# Altium footprint library MyPcbLib.PcbLib: 43 footprints (part 1 of 3)
Each footprint in its own frame and in the unit in brackets; x right, y up, seen from the top. Pads: shape width x height; smd on the part's side, far side on the other; paste and mask are expansions set on the pad; w line width, h text height; cw(c..) or ccw(c..) is an arc to the next point about the centre after c.
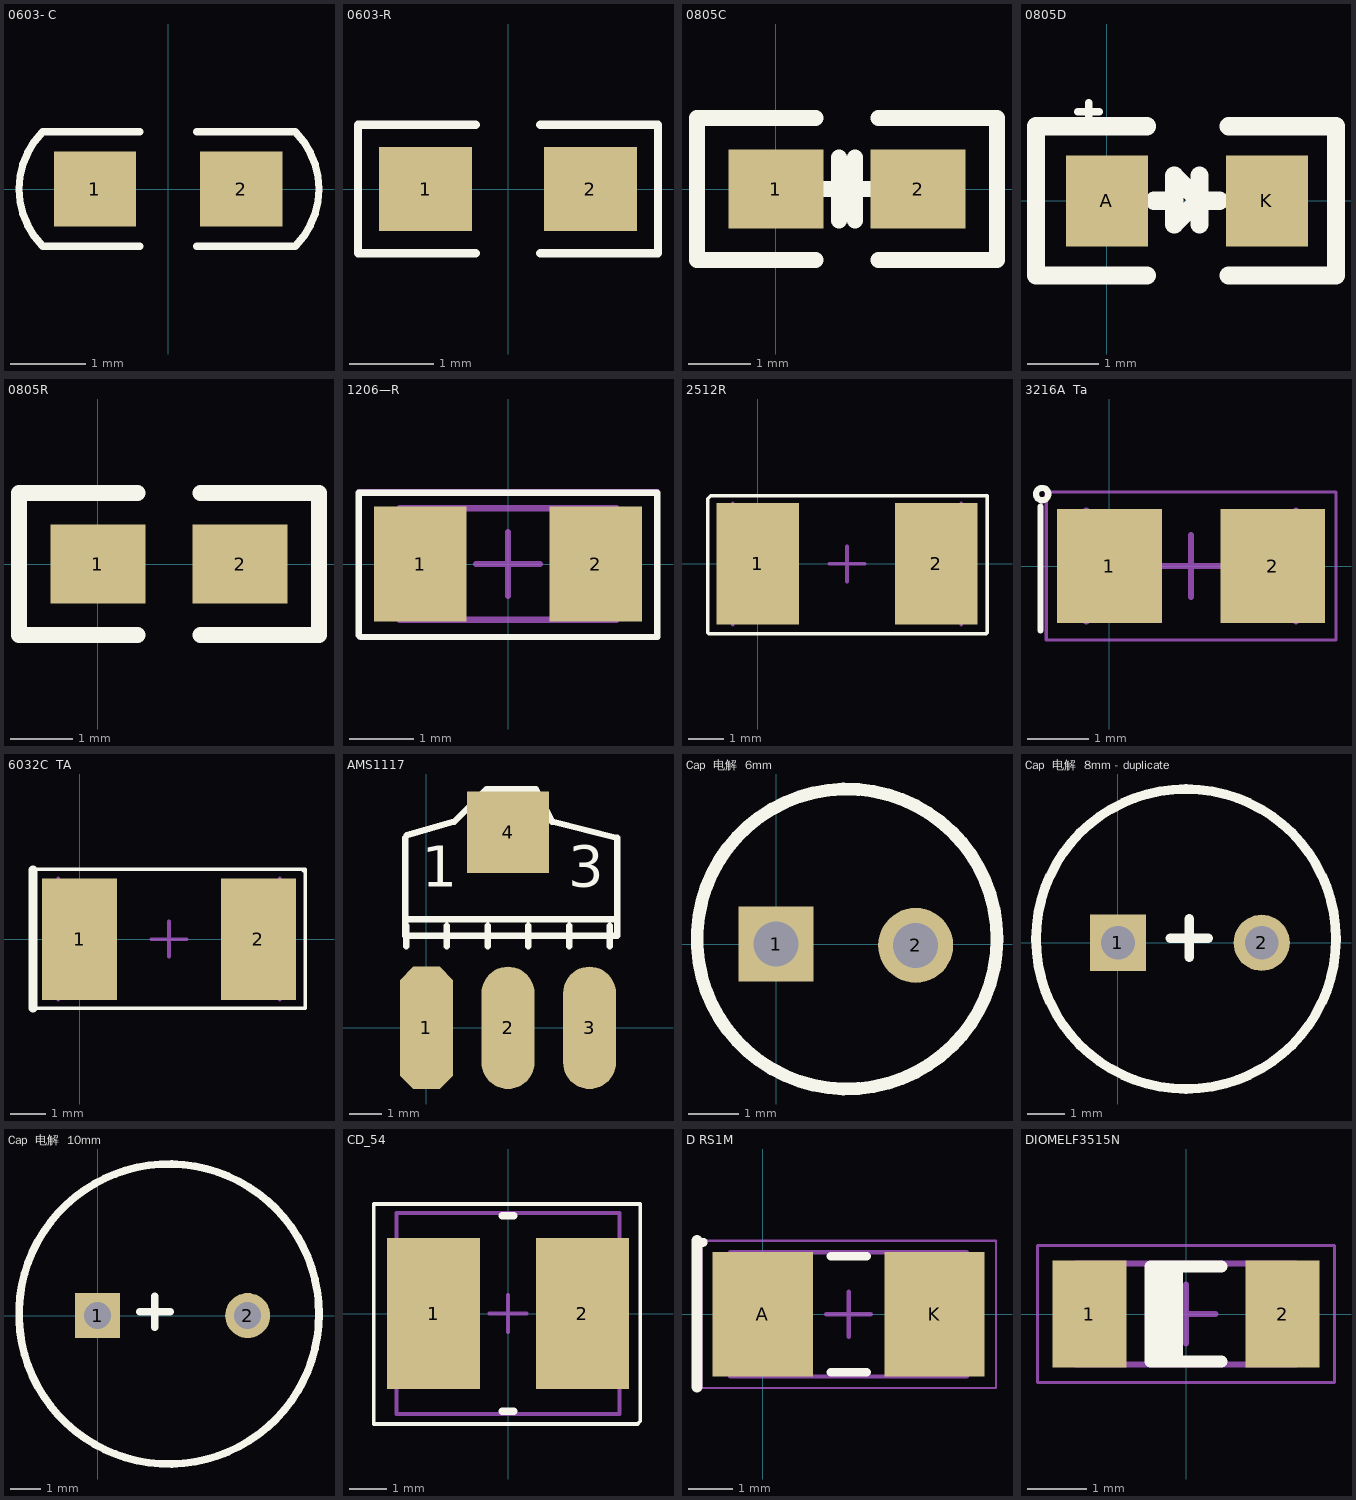
[diagram p0: the footprints below, top view; thin cyan lines are the x and y axes]

## 0603- C [mm] "贴片带丝印"
height 0.6
pads (2):
  rect 1.1x1 smd: 1(-0.977,0) 2(0.977,0)
Top Overlay:
  lines w0.1: -0.381,-0.762 -1.676,-0.762 cw(c-0.914,0) -1.676,0.762 -0.381,0.762 ; 0.381,-0.762 1.702,-0.762 ccw(c0.94,0) 1.702,0.762 0.381,0.762
3D body: height 1, standoff 0, extent -1.143,-0.381 1.143,0.381

## 0603-R [mm] "贴片带丝印"
height 0.6
pads (2):
  rect 1.1x1 smd: 1(-0.977,0) 2(0.977,0)
Top Overlay:
  lines w0.1: -0.381,-0.762 -1.778,-0.762 -1.778,0.762 -0.381,0.762 ; 0.381,-0.762 1.778,-0.762 1.778,0.762 0.381,0.762
3D body: height 1, standoff 0, extent -1.143,-0.381 1.143,0.381

## 0805C [mil]
height 270.08
pads (2):
  rect 60x50 smd: 1(0,0) 2(90,0)
Top Overlay:
  lines w10: 25,-45 -50,-45 -50,45 25,45 ; 30,0 40,0 ; 40,-20 40,20 ; 50,-20 50,20 ; 50,0 60,0 ; 65,-45 140,-45 140,45 65,45

## 0805D [mil]
height 270.08
pads (2):
  rect 45x50 smd: A(0,0) K(88,0)
Top Overlay:
  lines w3.94: -16,49 -4,49 ; -10,41 -10,54
  lines w10: 22,-41 -39,-41 -39,41 22,41 ; 26,0 36,0 ; 51,-13 51,14 ; 62,0 51,0 ; 67,-41 126,-41 126,41 67,41 ; 51,0 37,14 37,-13 50,0 51,0

## 0805R [mil]
height 69.29
pads (2):
  rect 60x50 smd: 1(0,0) 2(90,0)
Top Overlay:
  lines w10: 25,-45 -50,-45 -50,45 25,45 ; 65,-45 140,-45 140,45 65,45

## 1206—R [mm]
height 0.5
pads (2):
  rect 1.45x1.8 smd: 1(-1.375,0) 2(1.375,0)
Top Overlay:
  lines w0.1: -2.337,-1.118 -2.337,1.118 2.337,1.118 2.337,-1.143 -2.311,-1.143 -2.337,-1.118
Mechanical 13:
  lines w0.1: -1.7,-0.875 1.7,-0.875 1.7,0.875 -1.7,0.875 -1.7,-0.875
Mechanical 15:
  lines w0.05: -2.35,-1.15 2.35,-1.15 2.35,1.15 -2.35,1.15 -2.35,-1.15
  lines w0.1: -0.5,0 0.5,0 ; 0,-0.5 0,0.5
3D body: height 0.5, standoff 0, extent 0.9,-0.875 1.7,0.875
3D body: height 0.5, standoff 0, extent -1.7,-0.875 -0.9,0.875
3D body: height 0.5, standoff 0, extent -0.9,-0.875 0.9,0.875

## 2512R [mm]
height 0.7
pads (2):
  rect 2.3x3.4 smd: 1(0,0) 2(5,0)
Top Overlay:
  lines w0.1: -1.397,-1.93 -1.397,1.016 -1.397,1.346 -1.397,1.827 -1.312,1.912 6.419,1.912 6.426,1.905 6.426,-1.93 6.401,-1.956 -1.372,-1.956 -1.397,-1.93
Mechanical 13:
  lines w0.1: -0.7,-1.7 -0.7,1.7 ; 5.7,-1.7 5.7,1.7
Mechanical 15:
  lines w0.05: 6.4,-1.95 6.4,1.95
  lines w0.1: 2,0 3,0 ; 2.5,-0.5 2.5,0.5
3D body: height 0.7, standoff 0, extent 4.1,-1.7 5.7,1.7
3D body: height 0.7, standoff 0, extent -0.7,-1.7 0.9,1.7

## 3216A  Ta [mm] "Chip Capacitor, 2-Leads, Body 3.30x1.70mm, IPC Medium Density"
height 1.7
pads (2):
  rect 1.7x1.85 smd: 1(0,0) 2(2.65,0)
Top Overlay:
  circle w0.1: c-1.091,1.168 r0.1
  lines w0.1: -1.118,-1.041 -1.118,0.965
Mechanical 13:
  lines w0.1: -0.375,-0.9 -0.375,0.9 ; 3.025,-0.9 3.025,0.9
Mechanical 15:
  lines w0.05: -1.025,-1.2 3.675,-1.2 3.675,1.2 -1.025,1.2 -1.025,-1.2
  lines w0.1: 0.825,0 1.825,0 ; 1.325,-0.5 1.325,0.5
3D body: height 1.7, standoff 0, extent 2.075,-0.9 3.025,0.9
3D body: height 1.7, standoff 0, extent -0.375,-0.9 0.575,0.9

## 6032C  TA [mm]
height 2.9
pads (2):
  rect 2.1x3.4 smd: 1(0,0) 2(5,0)
Top Overlay:
  lines w0.1: 6.266,1.912 6.31,1.956 ; 6.31,1.956 6.31,-1.93 -1.31,-1.93 -1.31,1.702 -1.31,1.93 -1.285,1.956 6.31,1.956
  lines w0.254: -1.31,-1.93 -1.31,1.93
Mechanical 13:
  lines w0.1: -0.6,-1.7 -0.6,1.7 ; 5.6,-1.7 5.6,1.7
Mechanical 15:
  lines w0.05: -1.3,-1.95 6.3,-1.95 6.3,1.95 -1.3,1.95 -1.3,-1.95
  lines w0.1: 2,0 3,0 ; 2.5,-0.5 2.5,0.5
3D body: height 2.9, standoff 0, extent 4.15,-1.7 5.6,1.7
3D body: height 2.9, standoff 0, extent -0.6,-1.7 0.85,1.7

## AMS1117 [mil]
pads (4):
  oct 65x150 smd: 1(0.03,-0.06)
  oval 65x150 smd: 2(100.03,-0.06) 3(200.03,-0.06)
  rect 100x100 smd: 4(100.03,239.94)
Top Overlay:
  lines w7.87: -25.97,232.94 -25.97,132.94 ; -24.97,99.94 -24.97,124.94 ; -24.3,236.27 34.03,252.94 74.03,292.94 134.03,292.94 154.03,252.94 234.03,232.94 234.03,112.94 ; 25.03,99.94 25.03,124.94 ; 75.03,99.94 75.03,124.94 ; 125.03,99.94 125.03,124.94 ; 175.03,99.94 175.03,124.94 ; 225.03,99.94 225.03,124.94 ; -25.97,132.94 -25.97,112.94 234.03,112.94 ; -25.97,132.94 234.03,132.94 234.03,112.94
  text "1" at -5.97,172.94 h50
  text "3" at 174.03,172.94 h50

## Cap  电解  6mm [mm] "Connector; Header; 3 Position"
height 1.3
pads (2):
  rect 1.5x1.5 hole 0.9: 1(0,0)
  round 1.5 hole 0.9: 2(2.794,-0.025)
Top Overlay:
  circle w0.254: c1.42,0.102 r3

## Cap  电解  8mm - duplicate [mm] "Connector; Header; 3 Position"
height 1.3
pads (2):
  rect 1.5x1.5 hole 0.9: 1(0,0)
  round 1.5 hole 0.9: 2(3.835,0)
Top Overlay:
  circle w0.254: c1.817,0.102 r4
  lines w0.254: 1.397,0.127 2.413,0.127 ; 1.905,-0.381 1.905,0.635

## Cap  电解  10mm [mm] "Connector; Header; 3 Position"
height 1.3
pads (2):
  rect 1.5x1.5 hole 0.9: 1(0,0)
  round 1.5 hole 0.9: 2(5,0)
Top Overlay:
  circle w0.254: c2.375,0.051 r5
  lines w0.254: 1.397,0.127 2.413,0.127 ; 1.905,-0.381 1.905,0.635

## CD_54 [mm]
height 4
pads (2):
  rect 2.5x4.064 smd: 1(-2,0) 2(2,0)
Top Overlay:
  lines w0.1: -3.607,-2.972 -3.607,2.946 3.556,2.946 3.556,-2.896 3.48,-2.972 -3.607,-2.972
  lines w0.2: -0.15,-2.625 0.15,-2.625 ; -0.15,2.625 0.15,2.625
Mechanical 13:
  lines w0.1: -3,-2.7 -3,2.7 3,2.7 3,-2.7 -3,-2.7
Mechanical 15:
  lines w0.1: -0.5,0 0.5,0 ; 0,-0.5 0,0.5
3D body: height 4, standoff 0, extent -1.15,-2.7 1.15,2.7
3D body: height 4, standoff 0, extent -3,-2.7 -1.15,2.7
3D body: height 4, standoff 0, extent 1.15,-2.7 3,2.7

## D RS1M [mm]
height 2.3
pads (2):
  rect 2.25x2.8 smd: A(0,0) K(3.85,0)
Top Overlay:
  circle w0.1: c-1.337,1.612 r0.05
  lines w0.2: 1.525,-1.3 2.325,-1.3 ; 1.525,1.3 2.325,1.3
  lines w0.254: -1.473,-1.626 -1.473,1.651
Mechanical 13:
  lines w0.1: -0.725,-1.395 4.575,-1.395 4.575,1.395 -0.725,1.395 -0.725,-1.395
Mechanical 15:
  lines w0.05: -1.375,-1.65 5.225,-1.65 5.225,1.65 -1.375,1.65 -1.375,-1.65
  lines w0.1: 1.425,0 2.425,0 ; 1.925,-0.5 1.925,0.5
3D body: height 2.3, standoff 0, extent 3.325,-1.395 4.575,1.395
3D body: height 2.3, standoff 0, extent -0.725,-1.395 0.525,1.395
3D body: height 2.3, standoff 0, extent 0.525,-1.395 3.325,1.395

## DIOMELF3515N [mm] "MELF Diode, 2-Leads, Body 3.50x1.50mm, IPC Medium Density"
height 1.7
pads (2):
  rect 1.25x1.8 smd: 1(-1.625,0) 2(1.625,0)
Top Overlay:
  rectangle: -0.6,-0.8 -0.05,0.8
  lines w0.2: 0.6,-0.8 -0.6,-0.8 -0.6,0.8 0.6,0.8
Mechanical 13:
  lines w0.1: -1.85,-0.85 1.85,-0.85 1.85,0.85 -1.85,0.85 -1.85,-0.85
Mechanical 15:
  lines w0.05: -2.5,-1.15 2.5,-1.15 2.5,1.15 -2.5,1.15 -2.5,-1.15
  lines w0.1: -0.5,0 0.5,0 ; 0,-0.5 0,0.5
3D body: height 1.69, standoff 0, extent 1.3,-0.85 1.85,0.847
3D body: height 1.68, standoff 0.04, extent -1.3,-0.82 1.3,0.817
3D body: height 1.68, standoff 0.04, extent -0.7,-0.821 -0.1,0.818
3D body: height 1.69, standoff 0, extent -1.85,-0.85 -1.3,0.847